# Altium schematic symbol library 2020-07-09_11-50-48.SchLib: 2 symbols
Pins are listed as number, name and electrical type; pins without a type are passive.

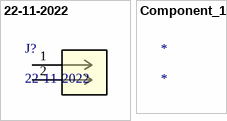
[diagram p0: symbols 22-11-2022 to Component_1]

## 22-11-2022
designator J?
No Description Available; Vendor: Molex Connector Corporation; Built_By: EMA_Cory; SourceLibrary: Molex_2020-01-22; Manufacturer_Part_Number: 22-11-2022; Copyright: Copyright (C) 2018 Accelerated Designs. All rights reserved; Datasheet: https://www.digikey.com/products/en/connectors-interconnects/rectangular-connectors-headers-male-pins/314?k=22-11-2022; RefDes: RefDes; Type: DEV
footprint CONN_22-11-2022_
pins: 1, 2

## Component_1
designator *